# EAGLE library part CAP1203 (library SparkFun-Sensors)
CAP1203 Sensor A 3 channel, I2C based capacitive touch sensor
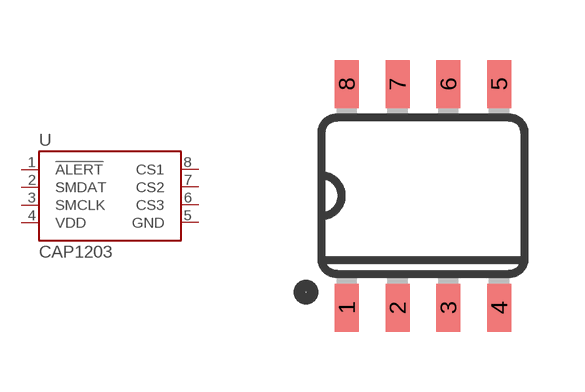
[diagram p45: symbol with the pads of SO08-TIGHT; footprint SO08-TIGHT]

Designator prefix U

## CAP1203 (PROD_ID: IC-14356; VALUE: CAP1203)  [SO08-TIGHT]
1  !ALERT  out
2  SMDAT
3  SMCLK  in
4  VDD  pwr
5  GND  pwr
6  CS3
7  CS2
8  CS1

## Footprint SO08-TIGHT (pad centres in mm)
smd 0.6 x 1.2: 1 -1.905,-2.8; 2 -0.635,-2.8; 3 0.635,-2.8; 4 1.905,-2.8; 5 1.905,2.8; 6 0.635,2.8; 7 -0.635,2.8; 8 -1.905,2.8